# EAGLE library part ADL5322 (library Lasser)
Analog Devices ADL5322 GaAs Matched RF PA Predriver Internally matched 50 Ohm Driver 700 - 1000 MHz. 20 dB Gain, P1dB 27dBm, NF=5dB, OIP3=45dBm
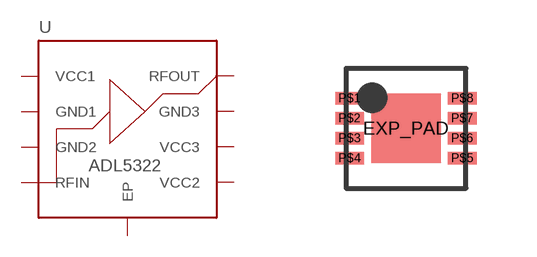
[diagram p0: symbol with the pads of LFCSP_VD; footprint LFCSP_VD]

Designator prefix -

## ADL5322  [LFCSP_VD]
EXP_PAD  EP  pwr
P$1  VCC2  pwr
P$2  VCC3  pwr
P$3  GND3  pwr
P$4  RFOUT  out
P$5  VCC1  pwr
P$6  GND1  pwr
P$7  GND2  pwr
P$8  RFIN  in

## Footprint LFCSP_VD (pad centres in mm)
LFCSP_VC (CP - 8 - 2) 3 x 3 mm Footprint nach Analog Devices
smd 1.74 x 1.74: EXP_PAD 0,0
smd 0.72 x 0.32: P$1 -1.41,0.75; P$2 -1.41,0.25; P$3 -1.41,-0.25; P$4 -1.41,-0.75; P$5 1.41,-0.75; P$6 1.41,-0.25; P$7 1.41,0.25; P$8 1.41,0.75